# Altium footprint library Borna electronic.PcbLib: 28 footprints (part 2 of 2)
Each footprint in its own frame and in the unit in brackets; x right, y up, seen from the top. Pads: shape width x height; smd on the part's side, far side on the other; paste and mask are expansions set on the pad; w line width, h text height; cw(c..) or ccw(c..) is an arc to the next point about the centre after c.
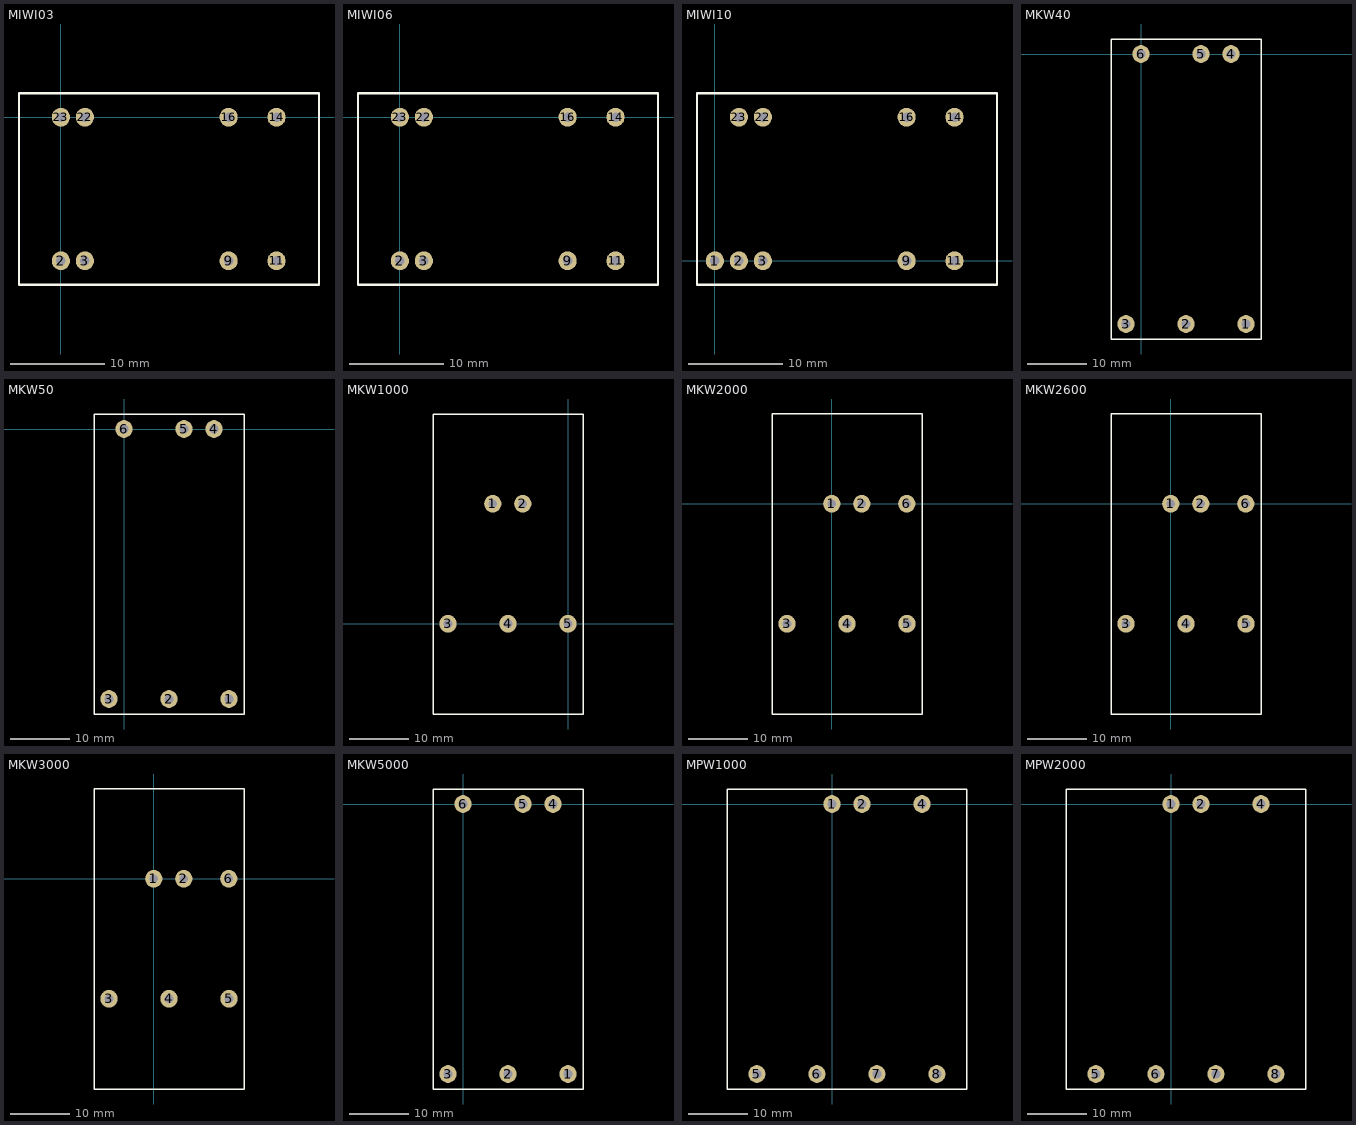
[diagram p1: the footprints below, top view; thin cyan lines are the x and y axes]

## MIWI03 [mm]
pads (8):
  oval 1.905x2 hole 1: 2(0,-15.22) 3(2.54,-15.22) 9(17.78,-15.22) 11(22.86,-15.22) 14(22.86,0) 16(17.78,0) 22(2.54,0) 23(0,0)
Top Overlay:
  lines w0.254: -4.44,-17.76 27.36,-17.76 27.36,2.54 -4.44,2.54 -4.44,-17.76

## MIWI06 [mm]
pads (8):
  oval 1.905x2 hole 1: 2(0,-15.22) 3(2.54,-15.22) 9(17.78,-15.22) 11(22.86,-15.22) 14(22.86,0) 16(17.78,0) 22(2.54,0) 23(0,0)
Top Overlay:
  lines w0.254: -4.44,-17.76 -4.44,2.54 27.36,2.54 27.36,-17.76 -4.44,-17.76

## MIWI10 [mm]
pads (9):
  oval 1.905x2 hole 1: 1(0,0) 2(2.54,0) 3(5.08,0) 9(20.32,0) 11(25.4,0) 14(25.4,15.22) 16(20.32,15.22) 22(5.08,15.22) 23(2.54,15.22)
Top Overlay:
  lines w0.254: -1.9,-2.54 29.9,-2.54 29.9,17.76 -1.9,17.76 -1.9,-2.54

## MKW40 [mm]
pads (6):
  oval 2.905x3 hole 1.5: 1(17.78,-45.72) 2(7.62,-45.72) 3(-2.54,-45.72) 4(15.24,0) 5(10.16,0) 6(0,0)
Top Overlay:
  lines w0.254: -5.08,-48.26 20.32,-48.26 20.32,2.54 -5.08,2.54 -5.08,-48.26

## MKW50 [mm]
pads (6):
  oval 2.905x3 hole 1.5: 1(17.78,-45.72) 2(7.62,-45.72) 3(-2.54,-45.72) 4(15.24,0) 5(10.16,0) 6(0,0)
Top Overlay:
  lines w0.254: -5.08,-48.26 -5.08,2.54 20.32,2.54 20.32,-48.26 -5.08,-48.26

## MKW1000 [mm]
pads (5):
  oval 2.905x3 hole 1.5: 1(-12.74,20.32) 2(-7.66,20.32) 3(-20.32,0) 4(-10.16,0) 5(0,0)
Top Overlay:
  lines w0.254: -22.86,-15.28 -22.86,35.52 2.54,35.52 2.54,-15.28 -22.86,-15.28

## MKW2000 [mm]
pads (6):
  oval 2.905x3 hole 1.5: 1(0,0) 2(5.08,0) 3(-7.58,-20.32) 4(2.58,-20.32) 5(12.74,-20.32) 6(12.7,0)
Top Overlay:
  lines w0.254: -10.12,-35.6 -10.12,15.2 15.28,15.2 15.28,-35.6 -10.12,-35.6

## MKW2600 [mm]
pads (6):
  oval 2.905x3 hole 1.5: 1(0,0) 2(5.08,0) 3(-7.58,-20.32) 4(2.58,-20.32) 5(12.74,-20.32) 6(12.7,0)
Top Overlay:
  lines w0.254: -10.12,-35.6 -10.12,15.2 15.28,15.2 15.28,-35.6 -10.12,-35.6

## MKW3000 [mm]
pads (6):
  oval 2.905x3 hole 1.5: 1(0,0) 2(5.08,0) 3(-7.58,-20.32) 4(2.58,-20.32) 5(12.74,-20.32) 6(12.7,0)
Top Overlay:
  lines w0.254: -10.12,-35.6 15.28,-35.6 15.28,15.2 -10.12,15.2 -10.12,-35.6

## MKW5000 [mm]
pads (6):
  oval 2.905x3 hole 1.5: 1(17.78,-45.72) 2(7.62,-45.72) 3(-2.54,-45.72) 4(15.24,0) 5(10.16,0) 6(0,0)
Top Overlay:
  lines w0.254: -5.08,-48.26 -5.08,2.54 20.32,2.54 20.32,-48.26 -5.08,-48.26

## MPW1000 [mm]
pads (7):
  oval 2.905x3 hole 1.5: 1(0,0) 2(5.08,0) 4(15.24,0) 5(-12.72,-45.72) 6(-2.56,-45.72) 7(7.6,-45.72) 8(17.76,-45.72)
Top Overlay:
  lines w0.254: -17.76,-48.26 22.84,-48.26 22.84,2.54 -17.76,2.54 -17.76,-48.26

## MPW2000 [mm]
pads (7):
  oval 2.905x3 hole 1.5: 1(0,0) 2(5.08,0) 4(15.24,0) 5(-12.72,-45.72) 6(-2.56,-45.72) 7(7.6,-45.72) 8(17.76,-45.72)
Top Overlay:
  lines w0.254: -17.76,-48.26 -17.76,2.54 22.84,2.54 22.84,-48.26 -17.76,-48.26